# EAGLE library part LIS3DH (library Cool_Electricity)
LIS3DH 3-axis accellerometer
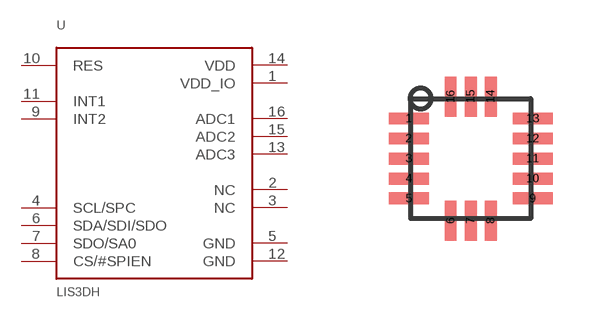
[diagram p5: symbol with the pads of LGA16_ST; footprint LGA16_ST]

Designator prefix U

## LIS3DH  [LGA16_ST]
1  VDD_IO
2  NC
3  NC
4  SCL/SPC
5  GND
6  SDA/SDI/SDO
7  SDO/SA0
8  CS/#SPIEN
9  INT2
10  RES
11  INT1
12  GND
13  ADC3
14  VDD
15  ADC2
16  ADC1

## Footprint LGA16_ST (pad centres in mm)
smd 1 x 0.3: 1 -1.55,1; 2 -1.55,0.5; 3 -1.55,0; 4 -1.55,-0.5; 5 -1.55,-1; 9 1.55,-1; 10 1.55,-0.5; 11 1.55,0; 12 1.55,0.5; 13 1.55,1
smd 0.3 x 1: 6 -0.5,-1.55; 7 0,-1.55; 8 0.5,-1.55; 14 0.5,1.55; 15 0,1.55; 16 -0.5,1.55